# EAGLE library part IC_QFX20 (library dp_devices)
Universal Quad Flat Pack/Leadless 20 pins
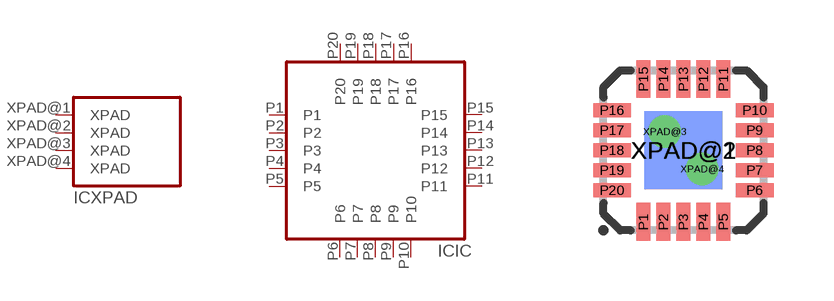
[diagram p138: symbol with the pads of QFN20_4X4; footprint QFN20_4X4]

Designator prefix IC; gates IC=QFX-20 XPAD=QFX-XPAD-4

## IC_QFX20-QFN20_4X4  [QFN20_4X4]
P1  IC:P1  pas
P2  IC:P2  pas
P3  IC:P3  pas
P4  IC:P4  pas
P5  IC:P5  pas
P6  IC:P6  pas
P7  IC:P7  pas
P8  IC:P8  pas
P9  IC:P9  pas
P10  IC:P10  pas
P11  IC:P11  pas
P12  IC:P12  pas
P13  IC:P13  pas
P14  IC:P14  pas
P15  IC:P15  pas
P16  IC:P16  pas
P17  IC:P17  pas
P18  IC:P18  pas
P19  IC:P19  pas
P20  IC:P20  pas
XPAD@1  XPAD:XPAD  pas
XPAD@2  XPAD:XPAD  pas
XPAD@3  XPAD:XPAD  pas
XPAD@4  XPAD:XPAD  pas

## Footprint QFN20_4X4 (pad centres in mm)
QFN 20 Body: 4 x 4 mm Pitch: 0.50 mm Based on: MAXIM's G2044-3 <http://pdfserv.maximintegrated.com/package_dwgs/21-0106.PDF>
smd 0.35 x 0.95: P1 -1,-1.785; P2 -0.5,-1.785; P3 0,-1.785; P4 0.5,-1.785; P5 1,-1.785; P11 1,1.785; P12 0.5,1.785; P13 0,1.785; P14 -0.5,1.785; P15 -1,1.785
smd 0.95 x 0.35: P6 1.785,-1; P7 1.785,-0.5; P8 1.785,0; P9 1.785,0.5; P10 1.785,1; P16 -1.785,1; P17 -1.785,0.5; P18 -1.785,0; P19 -1.785,-0.5; P20 -1.785,-1
smd 1.95 x 1.95: XPAD@1 0,0
smd 1.95 x 1.95 bottom: XPAD@2 0,0
drill 0.305 round: XPAD@3 -0.467,0.467; XPAD@4 0.467,-0.467